# Altium footprint library DCDC_Converter_4_Channel.PcbLib: 29 footprints (part 1 of 2)
Each footprint in its own frame and in the unit in brackets; x right, y up, seen from the top. Pads: shape width x height; smd on the part's side, far side on the other; paste and mask are expansions set on the pad; w line width, h text height; cw(c..) or ccw(c..) is an arc to the next point about the centre after c.
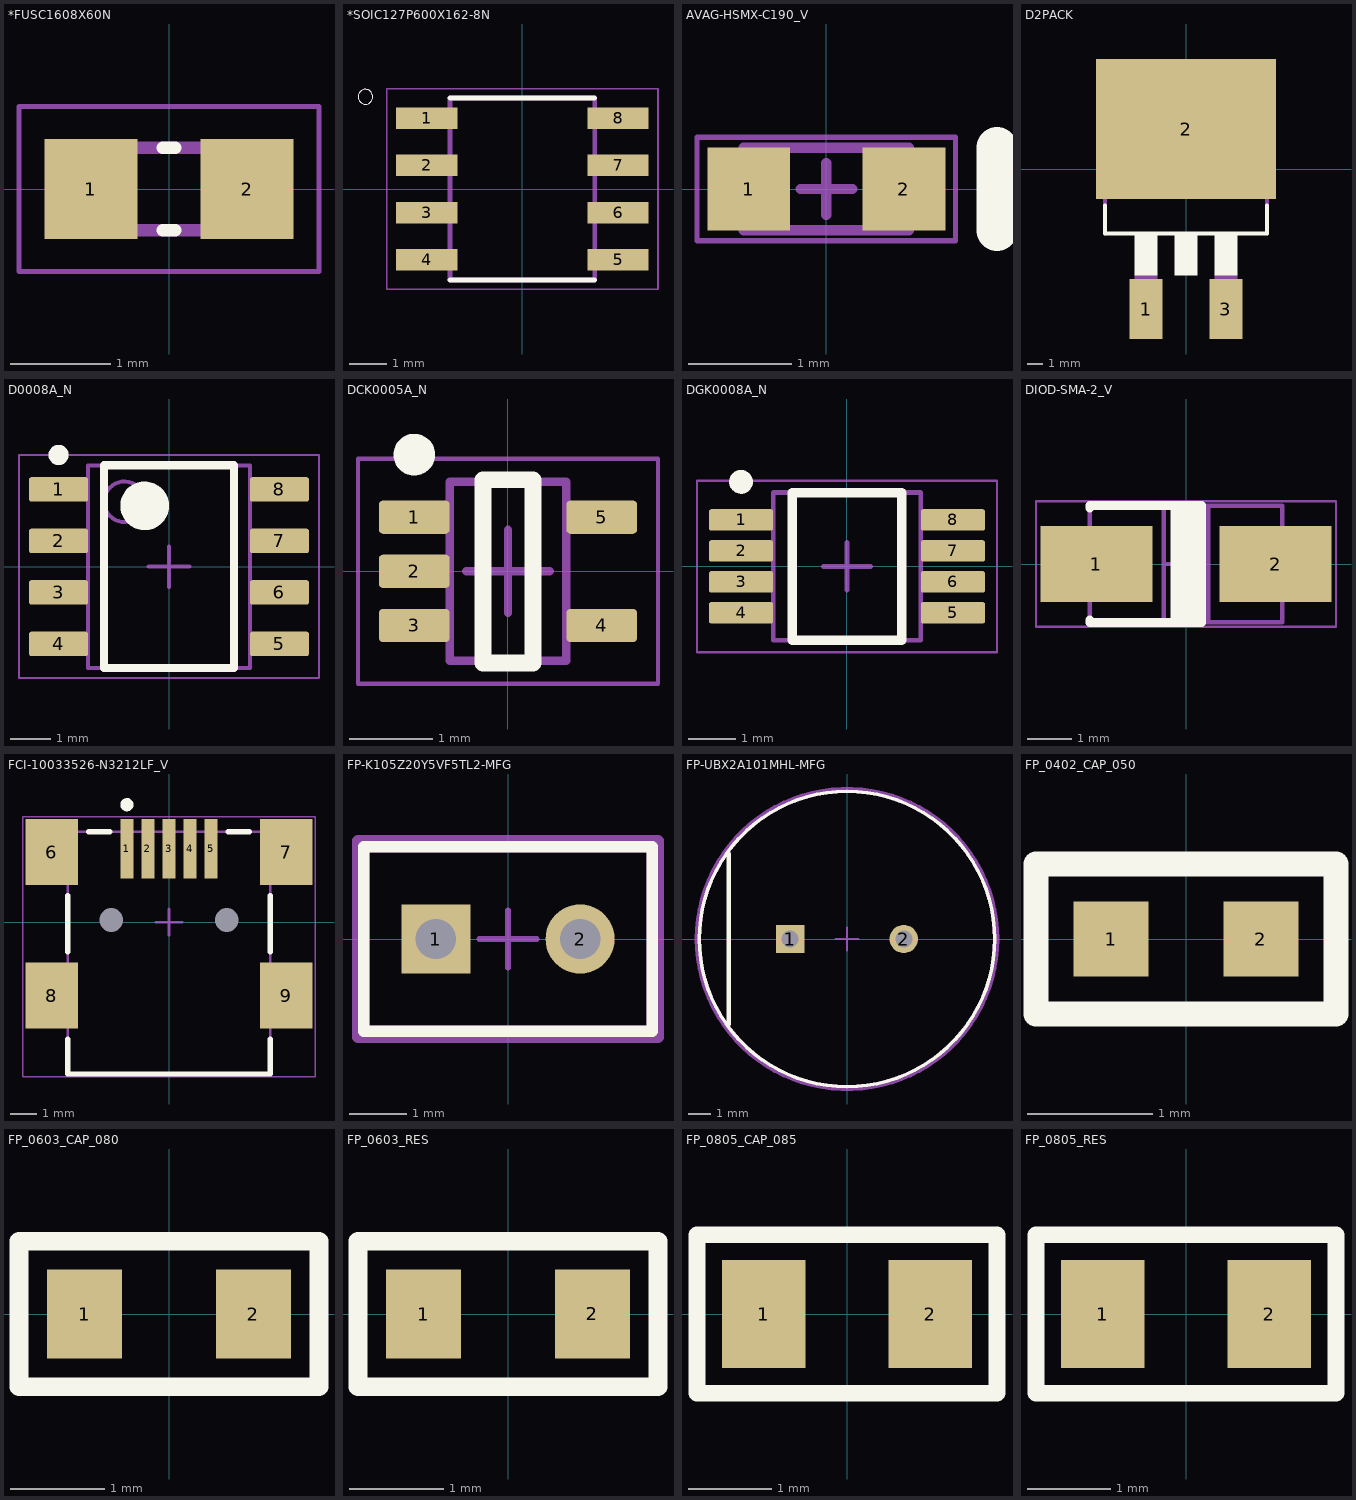
[diagram p0: the footprints below, top view; thin cyan lines are the x and y axes]

## *FUSC1608X60N [mm]
pads (2):
  rect 0.92x0.99 smd: 1(-0.775,0) 2(0.775,0)
Top Overlay:
  lines w0.127: -0.06,-0.41 0.06,-0.41 ; -0.06,0.41 0.06,0.41
Mechanical 4:
  lines w0.127: -0.8,-0.41 0.8,-0.41 ; -0.8,-0.41 -0.8,0.41 ; -0.8,-0.41 0.8,-0.41 ; -0.8,-0.41 -0.8,0.41 ; -0.8,0.41 0.8,0.41 ; -0.8,0.41 0.8,0.41 ; 0.8,-0.41 0.8,0.41 ; 0.8,-0.41 0.8,0.41
Mechanical 15:
  lines w0.05: -1.49,-0.82 -1.49,0.82 1.49,0.82 1.49,-0.82 -1.49,-0.82

## *SOIC127P600X162-8N [mm]
pads (8):
  rect 1.65x0.58 smd: 1(-2.58,1.905) 2(-2.58,0.635) 3(-2.58,-0.635) 4(-2.58,-1.905) 5(2.58,-1.905) 6(2.58,-0.635) 7(2.58,0.635) 8(2.58,1.905)
Top Overlay:
  circle w0: c-4.23,2.485 r0.2
  lines w0.127: -1.95,-2.45 1.95,-2.45 ; -1.95,2.45 1.95,2.45
Mechanical 4:
  circle w0: c-4.23,2.485 r0.2
  circle w0: c-4.23,2.485 r0.2
  lines w0.127: -1.95,-2.45 -1.95,2.45 ; -1.95,-2.45 1.95,-2.45 ; -1.95,-2.45 -1.95,2.45 ; -1.95,-2.45 1.95,-2.45 ; -1.95,2.45 1.95,2.45 ; -1.95,2.45 1.95,2.45 ; 1.95,-2.45 1.95,2.45 ; 1.95,-2.45 1.95,2.45
Mechanical 16:
  lines w0.05: -3.655,-2.7 -3.655,2.7 3.655,2.7 3.655,-2.7 -3.655,-2.7

## AVAG-HSMX-C190_V [mm] "SMD, 2-Leads, Body 1.6x0.8mm, Height 0.9mm"
height 0.9
pads (2):
  rect 0.8x0.8 smd: 1(-0.75,0) 2(0.75,0)
Top Overlay:
  lines w0.4: 1.65,-0.4 1.65,0.4
Mechanical 13:
  lines w0.1: -0.8,-0.4 0.8,-0.4 0.8,0.4 -0.8,0.4 -0.8,-0.4
Mechanical 15:
  lines w0.05: -1.25,-0.5 -1.25,0.5 1.25,0.5 1.25,-0.5 -1.25,-0.5
  lines w0.1: -0.25,0 0.25,0 ; 0,-0.25 0,0.25
3D body: height 0.4, standoff 0, extent -0.8,-0.4 0.8,0.4
3D body: height 0.9, standoff 0.4, extent -0.55,-0.4 0.55,0.4

## D2PACK [mil]
pads (3):
  rect 82x150 smd: 1(-100,-350) 3(100,-350)
  rect 450x350 smd: 2(0,100)
Top Overlay:
  region: 28,-265.07 -28.01,-265.07 -28.01,-167 28,-167
  region: 128,-265.46 72.13,-265.46 72.13,-167 128,-167
  region: -72,-265.3 -128.15,-265.3 -128.15,-167 -72,-167
  lines w10: -202,-91 -202,-161 202,-161 202,-91
Mechanical 13:
  region: 128,-321.2 72.05,-321.2 72.05,-265 128,-265
  region: 122,-375.31 78.06,-375.31 78.06,-319 122,-319
  region: -72,-321.49 -128.2,-321.49 -128.2,-265 -72,-265
  region: -78,-375.61 -122.2,-375.61 -122.2,-319 -78,-319
  lines w10: -202,-161 -202,175 ; 202,-161 202,175 ; -202,175 202,175 ; -202,175 -202,185 -133,229 123,229 202,175

## D0008A_N [mm] "SOIC, 8-Leads, Body 5x4mm, Pitch 1.27mm, IPC Medium Density"
height 1.75
pads (8):
  rrect17% 1.45x0.6 smd: 1(-2.725,1.905) 2(-2.725,0.635) 3(-2.725,-0.635) 4(-2.725,-1.905) 5(2.725,-1.905) 6(2.725,-0.635) 7(2.725,0.635) 8(2.725,1.905)
Top Overlay:
  circle w0.6: c-0.6,1.5 r0.3
  circle w0.25: c-2.725,2.755 r0.125
  lines w0.2: -1.6,-2.5 1.6,-2.5 1.6,2.5 -1.6,2.5 -1.6,-2.5
Mechanical 1:
  text ".Designator" at -1.397,-0.254 h0.6
Mechanical 13:
  circle w0.1: c-1.1,1.6 r0.5
  lines w0.1: -2,-2.5 2,-2.5 2,2.5 -2,2.5 -2,-2.5
Mechanical 15:
  lines w0.05: -3.7,-2.75 3.7,-2.75 3.7,2.75 -3.7,2.75 -3.7,-2.75
  lines w0.1: -0.5,0 0.5,0 ; 0,-0.5 0,0.5
3D body "SOIC-8akaD0008AakaM08A.stp": height 1.63, standoff 0, extent -3,-2.45 3,2.45

## DCK0005A_N [mm] "SOT23, 5-Leads, Body 2.15x1.4mm, Pitch 0.65mm, IPC Medium Density"
height 1.1
pads (5):
  rrect25% 0.85x0.4 smd: 1(-1.125,0.65) 2(-1.125,0) 3(-1.125,-0.65) 4(1.125,-0.65) 5(1.125,0.65)
Top Overlay:
  circle w0.25: c-1.125,1.4 r0.125
  lines w0.2: -0.3,-1.1 -0.3,1.1 0.3,1.1 0.3,-1.1 -0.3,-1.1
Mechanical 1:
  text ".Designator" at -0.635,-0.127 h0.3
Mechanical 13:
  lines w0.1: -0.7,-1.075 0.7,-1.075 0.7,1.075 -0.7,1.075 -0.7,-1.075
Mechanical 15:
  lines w0.05: -1.8,-1.35 1.8,-1.35 1.8,1.35 -1.8,1.35 -1.8,-1.35
  lines w0.1: -0.5,0 0.5,0 ; 0,-0.5 0,0.5
3D body "DCK0005AakaMAA05A.stp": height 0.94, standoff -0.01, extent -1.14,-1 1.14,1

## DGK0008A_N [mm] "TSOP, 8-Leads, Body 3.1x3.1mm, Pitch 0.65mm, IPC Medium Density"
height 1.1
pads (8):
  rrect22% 1.35x0.45 smd: 1(-2.225,0.975) 2(-2.225,0.325) 3(-2.225,-0.325) 4(-2.225,-0.975) 5(2.225,-0.975) 6(2.225,-0.325) 7(2.225,0.325) 8(2.225,0.975)
Top Overlay:
  circle w0.25: c-2.225,1.775 r0.125
  lines w0.2: -1.15,-1.55 1.15,-1.55 1.15,1.55 -1.15,1.55 -1.15,-1.55
Mechanical 1:
  text ".Designator" at -1.397,-0.254 h0.7
Mechanical 13:
  lines w0.1: -1.55,-1.55 1.55,-1.55 1.55,1.55 -1.55,1.55 -1.55,-1.55
Mechanical 15:
  lines w0.05: -3.15,-1.8 3.15,-1.8 3.15,1.8 -3.15,1.8 -3.15,-1.8
  lines w0.1: -0.5,0 0.5,0 ; 0,-0.5 0,0.5
3D body "MUY08A_ASM.stp": height 0.94, standoff -0.02, extent -2.451,-1.499 2.451,1.499

## DIOD-SMA-2_V [mm] "SMA, 2-Leads, Body 4.3x2.605mm, Height 2.3mm"
height 2.3
pads (2):
  rect 2.5x1.7 smd: 1(-2,0) 2(2,0)
Top Overlay:
  rectangle: -0.35,-1.27 0.35,1.335
  lines w0.2: -2.15,-1.302 0.35,-1.302 0.35,1.302 -2.15,1.302 ; -2.15,-1.302 -2.15,-1.25 ; -2.15,1.25 -2.15,1.302
Mechanical 13:
  lines w0.1: -0.5,-1.302 -0.5,1.302 ; 0.5,-1.302 0.5,1.302 ; -2.15,-1.302 2.15,-1.302 2.15,1.302 -2.15,1.302 -2.15,-1.302
Mechanical 15:
  lines w0.05: -3.35,-1.402 3.35,-1.402 3.35,1.402 -3.35,1.402 -3.35,-1.402
  lines w0.1: -0.5,0 0.5,0 ; 0,-0.5 0,0.5
3D body: height 2.3, standoff 0.4, extent 0.5,-1.302 2.15,1.302
3D body: height 2.3, standoff 0.4, extent -2.15,-1.302 -0.5,1.302
3D body: height 2.3, standoff 0.05, extent -0.5,-1.302 0.5,1.302

## FCI-10033526-N3212LF_V [mm] "SMD, 5-Leads, Body 9.2x7.7mm, Pitch 0.8mm"
height 3.95
pads (11):
  rect 0.5x2.25 smd: 1(-1.6,2.788) 2(-0.8,2.788) 3(0,2.788) 4(0.8,2.788) 5(1.6,2.788)
  rect 2x2.5 smd: 6(-4.45,2.663) 7(4.45,2.663) 8(-4.45,-2.787) 9(4.45,-2.787)
  round 0 hole 0.9 unplated: MH1(-2.2,0.083) MH2(2.2,0.083)
Top Overlay:
  circle w0.25: c-1.6,4.463 r0.125
  lines w0.2: -3.85,-4.437 -3.85,-5.767 3.85,-5.767 3.85,-4.437 ; -3.85,-1.137 -3.85,1.013 ; -3.05,3.433 -2.25,3.433 ; 2.25,3.433 3.05,3.433 ; 3.85,-1.137 3.85,1.013
Mechanical 13:
  lines w0.1: -3.85,-5.767 -3.85,3.433 3.85,3.433 3.85,-5.767 -3.85,-5.767
Mechanical 15:
  lines w0.05: -5.55,-5.867 5.55,-5.867 5.55,4.013 -5.55,4.013 -5.55,-5.867
  lines w0.1: -0.5,0 0.5,0 ; 0,-0.5 0,0.5
3D body "i10033526.stp": height 4.02, standoff -0.98, extent -4.95,-5.767 4.95,3.632

## FP-K105Z20Y5VF5TL2-MFG [mm]
pads (2):
  rect 1.2x1.2 hole 0.7 paste-1000 mask+0: 1(-1.25,0)
  round 1.2 hole 0.7 paste-1000 mask+0: 2(1.25,0)
Top Overlay:
  lines w0.2: -2.5,-1.6 2.5,-1.6 2.5,1.6 -2.5,1.6 -2.5,-1.6
Mechanical 5:
  lines w0.2: -2.6,-1.7 2.6,-1.7 2.6,1.7 -2.6,1.7 -2.6,-1.7
  text ".Designator" at 0,-0.001 h1
Mechanical 13:
  lines w0.2: -2.5,-1.6 2.5,-1.6 2.5,1.6 -2.5,1.6 -2.5,-1.6
Mechanical 15:
  lines w0.2: -2.6,-1.7 2.6,-1.7 2.6,1.7 -2.6,1.7 -2.6,-1.7
Mechanical 16:
  lines w0.1: -0.5,0 0.5,0 ; 0,-0.5 0,0.5
3D body "Cap_Vishay_BC_Components_K105Z20Y5VF5TL2_eec.STEP": height 0.25, standoff 0, extent -2.6,-1.7 2.6,1.7

## FP-UBX2A101MHL-MFG [mm]
pads (2):
  rect 1.25x1.25 hole 0.75 paste-1000 mask+0: 1(-2.5,0)
  round 1.25 hole 0.75 paste-1000 mask+0: 2(2.5,0)
Top Overlay:
  circle w0.15: c0,0 r6.5
  lines w0.2: -5.2,-3.75 -5.2,3.75
Mechanical 5:
  text ".Designator" at 0,0.188 h1
Mechanical 13:
  circle w0.15: c0,0 r6.5
Mechanical 15:
  lines w0.2: -6.6,0 cw(c0,0) 6.6,0 cw(c0,0) -6.6,0
Mechanical 16:
  lines w0.1: -0.5,0 0.5,0 ; 0,-0.5 0,0.5
3D body "Cap_Nichicon_UBX2A101MHL_eec.STEP": height 0.25, standoff 0, extent -6.6,-6.6 6.6,6.6

## FP_0402_CAP_050 [mm] "0.5mm magas 0402 kapacitás"
height 0.55
pads (2):
  rect 0.6x0.6 smd: 1(-0.6,0) 2(0.6,0)
Top Overlay:
  lines w0.2: -1.2,-0.6 1.2,-0.6 1.2,0.6 -1.2,0.6 -1.2,-0.6
3D body: height 0.5, standoff 0, extent -0.5,-0.25 -0.3,0.25
3D body: height 0.5, standoff 0, extent 0.3,-0.25 0.5,0.25
3D body: height 0.5, standoff 0, extent -0.3,-0.25 0.3,0.25

## FP_0603_CAP_080 [mm] "0.8mm magas 0603 kapacitás"
height 0.9
pads (2):
  rect 0.8x0.95 smd: 1(-0.9,0) 2(0.9,0)
Top Overlay:
  lines w0.2: 1.225,-0.775 -1.225,-0.775 ; -1.225,-0.775 -1.6,-0.775 -1.6,0.775 -1.225,0.775 1.225,0.775 1.6,0.775 1.6,-0.775 -1.225,-0.775
3D body: height 0.8, standoff 0, extent -0.5,-0.4 0.5,0.4
3D body: height 0.8, standoff 0, extent 0.5,-0.4 0.762,0.4
3D body: height 0.8, standoff 0, extent -0.8,-0.4 -0.5,0.4

## FP_0603_RES [mm] "0603 ellenállás"
height 0.55
pads (2):
  rect 0.8x0.95 smd: 1(-0.9,0) 2(0.9,0)
Top Overlay:
  lines w0.2: -1.6,-0.775 -1.6,0.775 -1.225,0.775 1.225,0.775 1.6,0.775 1.6,-0.775 1.225,-0.775 -1.225,-0.775 -1.6,-0.775
3D body "0603RES.STEP": height 0.44, standoff -0.01, extent -0.8,-0.4 0.8,0.4

## FP_0805_CAP_085 [mm] "0805 kapacitás YAGEO 0.85mm magas"
height 0.86
pads (2):
  rect 1x1.3 smd: 1(-1,0) 2(1,0)
Top Overlay:
  lines w0.2: -1.8,-0.95 -1.8,0.95 1.8,0.95 1.8,-0.95 -1.8,-0.95
3D body: height 0.85, standoff 0, extent -0.644,-0.635 0.676,0.635
3D body: height 0.85, standoff 0, extent 0.676,-0.635 1.032,0.635
3D body: height 0.85, standoff 0, extent -1,-0.635 -0.644,0.635

## FP_0805_RES [mm] "0805 ellenállás"
height 0.5
pads (2):
  rect 1x1.3 smd: 1(-1,0) 2(1,0)
Top Overlay:
  lines w0.2: -1.8,-0.95 1.8,-0.95 1.8,0.95 -1.8,0.95 -1.8,-0.95
3D body "0805RES.STEP": height 0.62, standoff 0.02, extent -1,-0.625 1,0.625